# Altium footprint library PcbLib1.PcbLib: 226 footprints (part 10 of 15)
Each footprint in its own frame and in the unit in brackets; x right, y up, seen from the top. Pads: shape width x height; smd on the part's side, far side on the other; paste and mask are expansions set on the pad; w line width, h text height; cw(c..) or ccw(c..) is an arc to the next point about the centre after c.
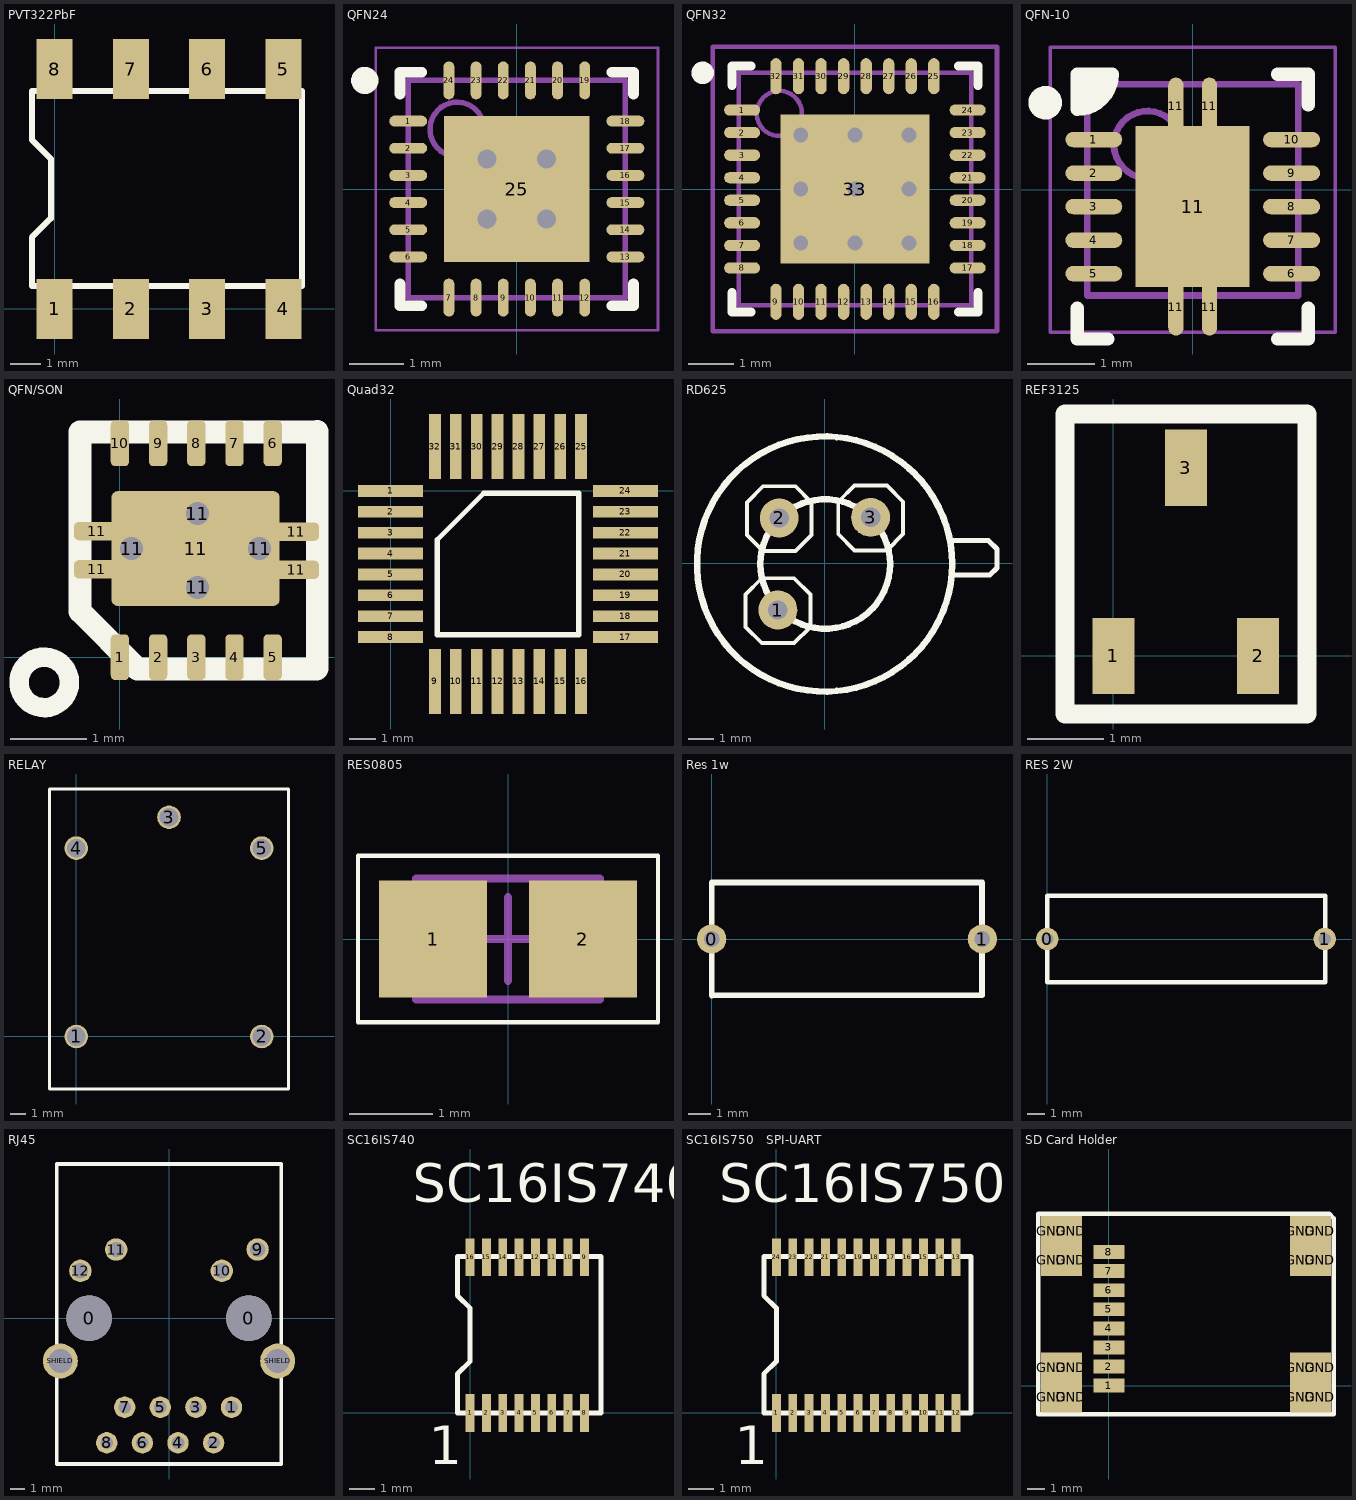
[diagram p9: the footprints below, top view; thin cyan lines are the x and y axes]

## PVT322PbF [mm]
pads (8):
  rect 1.2x2 smd: 1(0,0) 2(2.54,0) 3(5.08,0) 4(7.62,0) 5(7.62,8) 6(5.08,8) 7(2.54,8) 8(0,8)
Top Overlay:
  lines w0.2: -0.762,0.762 8.238,0.762 8.238,7.262 -0.762,7.262 -0.762,5.637 -0.127,5.002 -0.127,3.022 -0.762,2.387 -0.762,0.762

## QFN24 [mm]
height 1
pads (25):
  oval 0.7x0.2 smd: 1(-2,1.25) 2(-2,0.75) 3(-2,0.25) 4(-2,-0.25) 5(-2,-0.75) 6(-2,-1.25) 13(2,-1.25) 14(2,-0.75) 15(2,-0.25) 16(2,0.25) 17(2,0.75) 18(2,1.25)
  oval 0.2x0.7 smd: 7(-1.25,-2) 8(-0.75,-2) 9(-0.25,-2) 10(0.25,-2) 11(0.75,-2) 12(1.25,-2) 19(1.25,2) 20(0.75,2) 21(0.25,2) 22(-0.25,2) 23(-0.75,2) 24(-1.25,2)
  rect 2.68x2.68 smd: 25(0,0)
via 0.55,-0.55 diameter 0.8 hole 0.35
via -0.55,-0.55 diameter 0.8 hole 0.35
via 0.55,0.55 diameter 0.8 hole 0.35
via -0.55,0.55 diameter 0.8 hole 0.35
Top Overlay:
  circle w0.25: c-2.8,2 r0.125
  lines w0.2: -2.15,-1.75 -2.15,-2.15 -1.75,-2.15 ; -2.15,1.75 -2.15,2.15 -1.75,2.15 ; 1.75,-2.15 2.15,-2.15 2.15,-1.75 ; 1.75,2.15 2.15,2.15 2.15,1.75
Mechanical 13:
  circle w0.1: c-1.1,1.1 r0.5
  lines w0.1: -2,-2 -2,2 2,2 2,-2 -2,-2
Mechanical 15:
  lines w0.05: -2.6,-2.6 2.6,-2.6 2.6,2.6 -2.6,2.6 -2.6,-2.6
  lines w0.1: -0.5,0 0.5,0 ; 0,-0.5 0,0.5
3D body: height 0.8, standoff 0, extent -2,-2 2,2

## QFN32 [mm]
height 2
pads (33):
  oval 0.8x0.25 smd: 1(-2.5,1.75) 2(-2.5,1.25) 3(-2.5,0.75) 4(-2.5,0.25) 5(-2.5,-0.25) 6(-2.5,-0.75) 7(-2.5,-1.25) 8(-2.5,-1.75) 17(2.5,-1.75) 18(2.5,-1.25) 19(2.5,-0.75) 20(2.5,-0.25) 21(2.5,0.25) 22(2.5,0.75) 23(2.5,1.25) 24(2.5,1.75)
  oval 0.25x0.8 smd: 9(-1.75,-2.5) 10(-1.25,-2.5) 11(-0.75,-2.5) 12(-0.25,-2.5) 13(0.25,-2.5) 14(0.75,-2.5) 15(1.25,-2.5) 16(1.75,-2.5) 25(1.75,2.5) 26(1.25,2.5) 27(0.75,2.5) 28(0.25,2.5) 29(-0.25,2.5) 30(-0.75,2.5) 31(-1.25,2.5) 32(-1.75,2.5)
  rect 3.3x3.3 smd: 33(0,0)
via -1.2,1.2 diameter 0.66 hole 0.33
via 0,1.2 diameter 0.66 hole 0.33
via 1.2,1.2 diameter 0.66 hole 0.33
via -1.2,0 diameter 0.66 hole 0.33
via 0,0 diameter 0.66 hole 0.33
via 1.2,0 diameter 0.66 hole 0.33
via -1.2,-1.2 diameter 0.66 hole 0.33
via 0,-1.2 diameter 0.66 hole 0.33
via 1.2,-1.2 diameter 0.66 hole 0.33
Top Overlay:
  circle w0.25: c-3.375,2.575 r0.125
  lines w0.2: -2.725,-2.3 -2.725,-2.725 -2.3,-2.725 ; -2.725,2.3 -2.725,2.725 -2.3,2.725 ; 2.3,-2.725 2.725,-2.725 2.725,-2.3 ; 2.3,2.725 2.725,2.725 2.725,2.3
Mechanical 13:
  circle w0.1: c-1.675,1.675 r0.5
  lines w0.1: -2.575,-2.575 -2.575,2.575 2.575,2.575 2.575,-2.575 -2.575,-2.575
Mechanical 15:
  lines w0.1: -0.5,0 0.5,0 ; 0,-0.5 0,0.5 ; -3.15,-3.15 -3.15,3.15 3.15,3.15 3.15,-3.15 -3.15,-3.15
3D body: height 1, standoff 0, extent -2.575,-2.575 2.575,2.575

## QFN-10 [mm]
height 1
pads (15):
  oval 0.85x0.23 smd: 1(-1.475,0.75) 2(-1.475,0.25) 3(-1.475,-0.25) 4(-1.475,-0.75) 5(-1.475,-1.25) 6(1.475,-1.25) 7(1.475,-0.75) 8(1.475,-0.25) 9(1.475,0.25) 10(1.475,0.75)
  oval 0.23x0.85 smd: 11(-0.25,-1.75) 11(-0.25,1.25) 11(0.25,-1.75) 11(0.25,1.25)
  rect 1.7x2.4 smd: 11(0,-0.25)
Top Overlay:
  circle w0.25: c-2.2,1.3 r0.125
  region: -1.2,1.725 -1.725,1.725 -1.725,1.2 -1.5,1.2 -1.3,1.4
  lines w0.2: -1.725,-1.765 -1.725,-2.225 -1.265,-2.225 ; 1.265,-2.225 1.725,-2.225 1.725,-1.765 ; 1.265,1.725 1.725,1.725 1.725,1.265 ; -1.725,1.2 ccw(c-1.725,1.725) -1.2,1.725 -1.725,1.725 -1.725,1.2
Mechanical 13:
  circle w0.1: c-0.675,0.675 r0.5
  lines w0.1: -1.575,-1.575 -1.575,1.575 1.575,1.575 1.575,-1.575 -1.575,-1.575
Mechanical 15:
  lines w0.05: -2.125,-2.125 -2.125,2.125 2.125,2.125 2.125,-2.125 -2.125,-2.125
  lines w0.1: -0.5,0 0.5,0 ; 0,-0.5 0,0.5
3D body: height 0.8, standoff 0, extent -1.575,-1.575 1.575,1.575

## QFN/SON [mm]
height 1
pads (19):
  rrect50% 0.24x0.6 smd: 1(0,0) 2(0.5,0) 3(1,0) 4(1.5,0) 5(2,0) 6(2,2.8) 7(1.5,2.8) 8(1,2.8) 9(0.5,2.8) 10(0,2.8)
  rrect50% 0.6x0.24 smd: 11(-0.3,1.15) 11(-0.3,1.65) 11(2.307,1.144) 11(2.307,1.644)
  round 0.4 hole 0.3: 11(0.152,1.422) 11(1.016,0.914) 11(1.016,1.88) 11(1.829,1.422)
  rrect10% 2.2x1.5 smd: 11(0.991,1.422)
Top Overlay:
  circle w0.254: c-0.991,-0.33 r0.33
  lines w0.3: 2.57,-0.146 2.583,-0.146 ; 2.577,-0.152 2.583,-0.146 ; 2.577,-0.152 2.583,-0.146 ; 2.577,-0.152 0.229,-0.152 -0.523,0.599 -0.523,2.948 2.577,2.948 2.583,2.954 2.583,-0.146

## Quad32 [mm]
pads (32):
  rect 2.5x0.45 smd: 1(0,0) 2(0,-0.8) 3(0,-1.6) 4(0,-2.4) 5(0,-3.2) 6(0,-4) 7(0,-4.8) 8(0,-5.6) 17(9,-5.6) 18(9,-4.8) 19(9,-4) 20(9,-3.2) 21(9,-2.4) 22(9,-1.6) 23(9,-0.8) 24(9,0)
  rect 0.45x2.5 smd: 9(1.7,-7.3) 10(2.5,-7.3) 11(3.3,-7.3) 12(4.1,-7.3) 13(4.9,-7.3) 14(5.7,-7.3) 15(6.5,-7.3) 16(7.3,-7.3) 25(7.3,1.7) 26(6.5,1.7) 27(5.7,1.7) 28(4.9,1.7) 29(4.1,1.7) 30(3.3,1.7) 31(2.5,1.7) 32(1.7,1.7)
Top Overlay:
  lines w0.2: 1.785,-5.515 7.215,-5.515 7.215,-0.085 3.57,-0.085 1.785,-1.87 1.785,-5.515

## RD625 [mil]
height 157.48
pads (3):
  round 60 hole 30: 1(-72.01,-72) 2(-70,70) 3(71,71)
Top Overlay:
  circle w10: c0,-1 r196.85
  circle w10: c1,-1 r100
  lines w6: -97.01,-23 -122.01,-48 -122.01,-98 -97.01,-123 -47.01,-123 -22.01,-98 ; -97.01,-23 -47.01,-23 ; -97.01,-23 -47.01,-23 ; -95,119 -120,94 -120,44 -95,19 -45,19 -20,44 ; -95,119 -45,119 ; -95,119 -45,119 ; -47.01,-23 -22.01,-48 ; -45,119 -20,94 ; -22.01,-98 -22.01,-48 ; -22.01,-98 -22.01,-48 ; -20,44 -20,94 ; -20,44 -20,94 ; 46,120 21,95 21,45 46,20 96,20 121,45 ; 46,120 96,120 ; 46,120 96,120 ; 96,120 121,95 ; 121,45 121,95 ; 121,45 121,95
  lines w7.87: 193,35 253,35 266,22 266,-7 255,-18 198,-18

## REF3125 [mm]
height 1
pads (3):
  rect 0.55x1 smd: 1(0,0) 2(1.9,0) 3(0.95,2.47)
Top Overlay:
  lines w0.254: -0.635,-0.762 2.54,-0.762 2.54,3.175 -0.635,3.175 -0.635,-0.762

## RELAY [mm]
pads (5):
  round 1.524 hole 1.2 paste+0.5 mask+0.5: 1(0,0) 2(12,0) 3(6,14.2) 4(0,12.2) 5(12,12.2)
Top Overlay:
  lines w0.2: -1.75,-3.4 -1.75,16.027 13.75,16.027 13.75,-3.4 -1.75,-3.4

## RES0805 [mm] "Chip Resistor, 2-Leads, Body 2,00x1,25mm, IPC Medium Density"
height 1.1
pads (2):
  rect 1.3x1.4 smd: 1(-0.9,0) 2(0.9,0)
Top Overlay:
  lines w0.05: -1.8,-1 1.8,-1 1.8,1 -1.8,1 -1.8,-1
Mechanical 13:
  lines w0.1: -1.1,-0.725 1.1,-0.725 1.1,0.725 -1.1,0.725 -1.1,-0.725
Mechanical 15:
  lines w0.1: -0.5,0 0.5,0 ; 0,-0.5 0,0.5
3D body: height 1.1, standoff 0, extent 0.65,-0.725 1.1,0.725
3D body: height 1.1, standoff 0, extent -1.1,-0.725 -0.65,0.725
3D body: height 1.1, standoff 0, extent -0.65,-0.725 0.65,0.725

## Res 1w [mm]
height 5
pads (2):
  round 1.3 hole 0.7: 0(0,0) 1(12,0)
Top Overlay:
  lines w0.254: 0,-2.5 0,2.5 12,2.5 11.989,2.489 11.989,-2.489 0,-2.489

## RES 2W [mm]
height 5
pads (2):
  round 1.3 hole 0.7: 0(0,0) 1(16,0)
Top Overlay:
  lines w0.254: 0,-2.5 0,2.5 16.027,2.5 16.027,-2.489 0,-2.489

## RJ45 [mm]
height 8
pads (16):
  round 3.25 hole 3.25 paste+0 mask+0: 0(-5.7,0) 0(5.7,0)
  round 1.524 hole 0.9: 1(4.46,-6.35) 2(3.18,-8.89) 3(1.92,-6.35) 4(0.64,-8.89) 5(-0.62,-6.35) 6(-1.9,-8.89) 7(-3.16,-6.35) 8(-4.44,-8.89)
  round 1.6 hole 1.1: 9(6.32,4.9) 10(3.77,3.38) 11(-3.77,4.9) 12(-6.32,3.38)
  round 2.5 hole 1.7: SHIELD(-7.75,-3.05) SHIELD(7.75,-3.05)
Top Overlay:
  lines w0.254: -8,-10.4 -8,11 8,11 8,-10.4 -8,-10.4

## SC16IS740 [mm]
height 1
pads (16):
  rect 0.35x1.5 smd mask+0: 1(0,0) 2(0.65,0) 3(1.3,0) 4(1.95,0) 5(2.6,0) 6(3.25,0) 7(3.9,0) 8(4.55,0) 9(4.55,6.2) 10(3.9,6.2) 11(3.25,6.2) 12(2.6,6.2) 13(1.95,6.2) 14(1.3,6.2) 15(0.65,6.2) 16(0,6.2)
Top Overlay:
  lines w0.2: -0.5,0 -0.5,1.556 0,2.056 0,4.167 -0.5,4.667 -0.5,6.223 0,6.223 5.207,6.223 5.207,0 0,0 -0.5,0
  text "SC16IS740" at -2.286,8.382 h1.52
  text "1" at -1.651,-2.032 h1.52

## SC16IS750   SPI-UART [mm]
height 1
pads (24):
  rect 0.35x1.5 smd mask+0: 1(0,0) 2(0.65,0) 3(1.3,0) 4(1.95,0) 5(2.6,0) 6(3.25,0) 7(3.9,0) 8(4.55,0) 9(5.2,0) 10(5.85,0) 11(6.5,0) 12(7.15,0) 13(7.15,6.2) 14(6.5,6.2) 15(5.85,6.2) 16(5.2,6.2) 17(4.55,6.2) 18(3.9,6.2) 19(3.25,6.2) 20(2.6,6.2) 21(1.95,6.2) 22(1.3,6.2) 23(0.65,6.2) 24(0,6.2)
Top Overlay:
  lines w0.2: -0.5,0 -0.5,1.556 0,2.056 0,4.167 -0.5,4.667 -0.5,6.223 0,6.223 7.239,6.223 7.739,6.223 7.739,0 7.239,0 0,0 -0.5,0
  text "SC16IS750" at -2.286,8.382 h1.52
  text "1" at -1.651,-2.032 h1.52

## SD Card Holder [mm]
height 1
pads (24):
  rect 1.8x0.8 smd mask+0: 1(0,0) 2(0,1.1) 3(0,2.2) 4(0,3.3) 5(0,4.4) 6(0,5.5) 7(0,6.6) 8(0,7.7)
  rect 1.2x1.8 smd: GND(-3.302,-0.659) GND(-3.302,1.016) GND(-3.302,7.215) GND(-3.302,8.89) GND(-2.159,-0.659) GND(-2.159,1.016) GND(-2.159,7.215) GND(-2.159,8.89) GND(11.049,-0.659) GND(11.049,1.016) GND(11.049,7.215) GND(11.049,8.89) GND(12.192,-0.659) GND(12.192,1.016) GND(12.192,7.215) GND(12.192,8.89)
Top Overlay:
  lines w0.254: -4.064,-1.651 -4.064,9.906 12.7,9.906 12.954,9.652 12.954,-1.651 -4.064,-1.651